# Altium schematic symbol library LM3429MHXNOPB.SchLib: 1 symbol
Pins are listed as number, name and electrical type; pins without a type are passive.

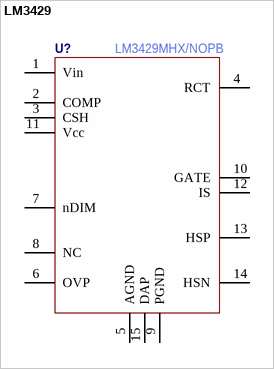
[diagram p0: symbol LM3429]

## LM3429
designator U?  Manufacturer Part Number: LM3429MHX/NOPB  (hidden comment: LM3429)
LED Lighting Drivers N-Channel Controller for Constant Curren
pins: 1 Vin, 2 COMP, 3 CSH, 4 RCT, 5 AGND, 6 OVP, 7 nDIM, 8 NC, 9 PGND, 10 GATE, 11 Vcc, 12 IS, 13 HSP, 14 HSN, 15 DAP